# Altium footprint library ZhangXue.PcbLib: 39 footprints (part 2 of 3)
Each footprint in its own frame and in the unit in brackets; x right, y up, seen from the top. Pads: shape width x height; smd on the part's side, far side on the other; paste and mask are expansions set on the pad; w line width, h text height; cw(c..) or ccw(c..) is an arc to the next point about the centre after c.
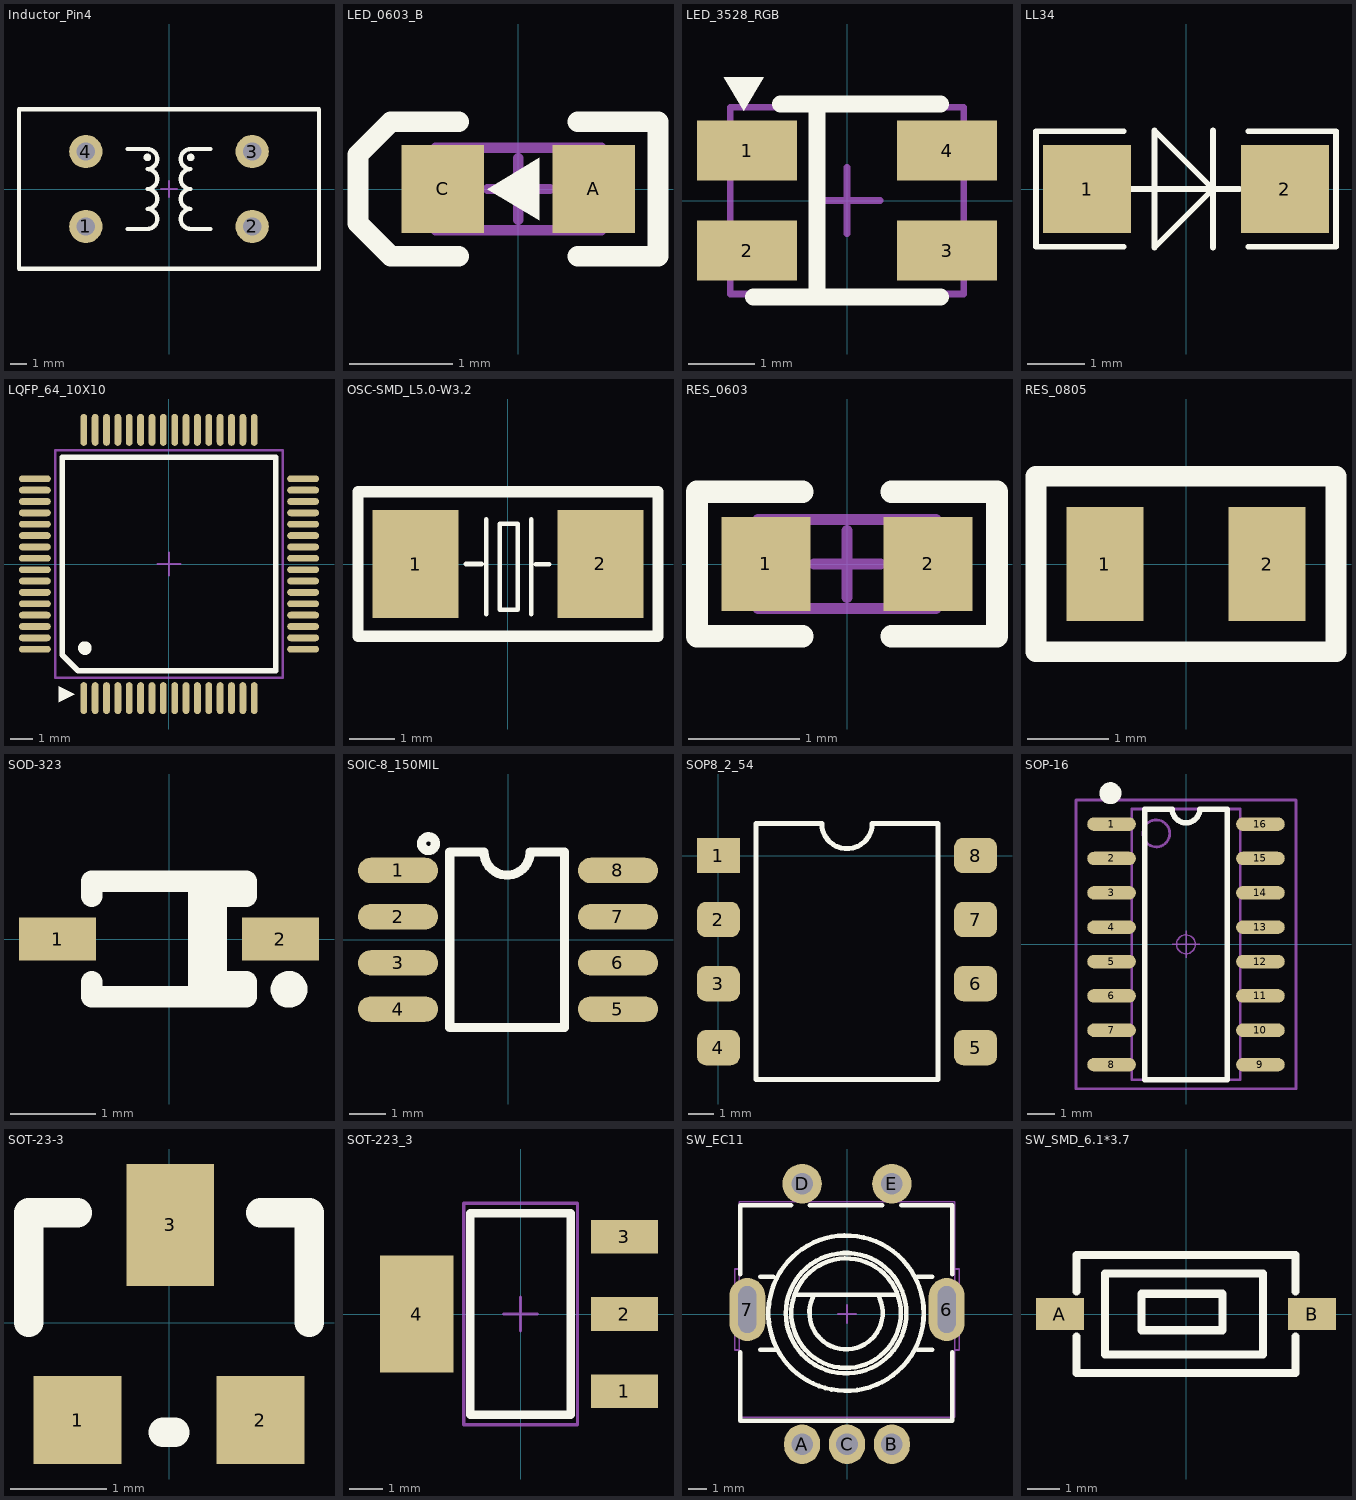
[diagram p1: the footprints below, top view; thin cyan lines are the x and y axes]

## Inductor_Pin4 [mm]
pads (4):
  round 2 hole 1.1: 1(-5,-2.25) 2(5,-2.25) 3(5,2.25) 4(-5,2.25)
Top Overlay:
  circle w0.254: c-1.3,1.9 r0.1
  circle w0.254: c1.3,1.9 r0.1
  lines w0.254: -2.5,-2.4 -1.3,-2.4 ccw(c-1.3,-1.8) -1.3,-1.2 ccw(c-1.3,-0.6) -1.3,0 ccw(c-1.3,0.6) -1.3,1.2 ccw(c-1.3,1.8) -1.3,2.4 -2.5,2.4 ; 2.5,-2.4 1.3,-2.4 cw(c1.3,-1.8) 1.3,-1.2 cw(c1.3,-0.6) 1.3,0 cw(c1.3,0.6) 1.3,1.2 cw(c1.3,1.8) 1.3,2.4 2.5,2.4 ; -9.017,-4.8 -9.017,4.8 9.017,4.8 9.017,-4.8 -9.017,-4.8
Mechanical 15:
  lines w0.1: -0.5,0 0.5,0 ; 0,-0.5 0,0.5

## LED_0603_B [mm]
pads (2):
  rect 0.8x0.85 smd: A(0.73,0) C(-0.73,0)
Top Overlay:
  region: -0.3,0 0.2,-0.3 0.2,0.3
  lines w0.2: -0.575,-0.65 -1.23,-0.65 -1.549,-0.33 -1.549,0.33 -1.23,0.65 -0.575,0.65 ; 0.575,-0.65 1.35,-0.65 1.35,0.65 0.575,0.65
Mechanical 15:
  lines w0.1: -0.297,0 0.303,0 ; 0,-0.3 0,0.3 ; -0.8,-0.4 0.8,-0.4 0.8,0.4 -0.8,0.4 -0.8,-0.4
3D body "LED0603(B).STEP": height 0.6, standoff 0, extent -0.81,-0.4 0.81,0.4

## LED_3528_RGB [mm]
pads (4):
  rect 1.5x0.9 smd: 1(-1.5,0.75) 2(-1.5,-0.75) 3(1.5,-0.75) 4(1.5,0.75)
Top Overlay:
  region: -1.85,1.85 -1.25,1.85 -1.55,1.35
  lines w0.254: -1.4,-1.447 1.4,-1.447 ; -1,1.453 1.4,1.453 ; -0.45,-1.447 -0.45,1.453
Mechanical 15:
  lines w0.1: -0.5,0.003 0.5,0.003 ; 0,-0.497 0,0.503 ; -1.75,-1.4 -1.75,1.4 1.75,1.4 1.75,-1.4 -1.75,-1.4
3D body "LED-3528 RGB.step": height 1.9, standoff 0, extent -1.75,-1.4 1.75,1.4

## LL34 [mil]
pads (2):
  rect 60x60 smd: 1(-67.5,0) 2(67.5,0)
Top Overlay:
  lines w3.94: -42.5,-39.37 -102.36,-39.37 -102.36,39.37 -42.5,39.37 ; -37.5,0 36.5,0 ; 18.5,-40 18.5,0 ; 18.5,40 18.5,0 ; 42.5,-39.37 102.36,-39.37 102.36,39.37 42.5,39.37 ; 18.5,0 -21.5,-40 -21.5,40 18.5,0
3D body "SOD-80.step": height 59.06, standoff 0, extent -66.4,-30 71.4,29.06

## LQFP_64_10X10 [mm]
pads (64):
  oval 0.3x1.4 smd: 1(-3.75,-5.9) 2(-3.25,-5.9) 3(-2.75,-5.9) 4(-2.25,-5.9) 5(-1.75,-5.9) 6(-1.25,-5.9) 7(-0.75,-5.9) 8(-0.25,-5.9) 9(0.25,-5.9) 10(0.75,-5.9) 11(1.25,-5.9) 12(1.75,-5.9) 13(2.25,-5.9) 14(2.75,-5.9) 15(3.25,-5.9) 16(3.75,-5.9) 33(3.75,5.9) 34(3.25,5.9) 35(2.75,5.9) 36(2.25,5.9) 37(1.75,5.9) 38(1.25,5.9) 39(0.75,5.9) 40(0.25,5.9) 41(-0.25,5.9) 42(-0.75,5.9) 43(-1.25,5.9) 44(-1.75,5.9) 45(-2.25,5.9) 46(-2.75,5.9) 47(-3.25,5.9) 48(-3.75,5.9)
  oval 1.4x0.3 smd: 17(5.9,-3.75) 18(5.9,-3.25) 19(5.9,-2.75) 20(5.9,-2.25) 21(5.9,-1.75) 22(5.9,-1.25) 23(5.9,-0.75) 24(5.9,-0.25) 25(5.9,0.25) 26(5.9,0.75) 27(5.9,1.25) 28(5.9,1.75) 29(5.9,2.25) 30(5.9,2.75) 31(5.9,3.25) 32(5.9,3.75) 49(-5.9,3.75) 50(-5.9,3.25) 51(-5.9,2.75) 52(-5.9,2.25) 53(-5.9,1.75) 54(-5.9,1.25) 55(-5.9,0.75) 56(-5.9,0.25) 57(-5.9,-0.25) 58(-5.9,-0.75) 59(-5.9,-1.25) 60(-5.9,-1.75) 61(-5.9,-2.25) 62(-5.9,-2.75) 63(-5.9,-3.25) 64(-5.9,-3.75)
Top Overlay:
  circle w0.4: c-3.7,-3.7 r0.1
  region: -4.15,-5.725 -4.85,-5.375 -4.85,-6.075
  lines w0.254: -4.7,-4 -4,-4.7 4.7,-4.7 4.7,4.7 -4.7,4.7 -4.7,-4
Mechanical 15:
  lines w0.1: -0.5,0 0.5,0 ; 0,-0.5 0,0.5 ; -5,-5 -5,5 5,5 5,-5 -5,-5
3D body "LQFP-64-10x10.STEP": height 1.62, standoff -0.01, extent -6.072,-6.07 6.072,6.073

## OSC-SMD_L5.0-W3.2 [mm]
pads (2):
  rect 1.9x2.4 smd: 1(-2.05,0) 2(2.05,0)
Top Overlay:
  lines w0.1: -0.94,0 -0.584,0 ; -0.483,-1.109 -0.483,0.991 ; 0.517,-1.109 0.517,0.991 ; 0.617,-0.009 0.917,-0.009 ; -0.183,-1.009 -0.183,0.89 0.217,0.891 0.217,-1.009 -0.183,-1.009
  lines w0.254: -3.325,-1.6 3.325,-1.6 3.325,-0.7 3.325,0.7 3.325,1.6 -3.325,1.6 -3.325,0.7 -3.325,-0.7 -3.325,-1.6
3D body "XTAL-Crystal SMD 5X3.2.STEP": height 1, standoff 0, extent -2.5,-1.473 2.5,1.727

## RES_0603 [mm]
pads (2):
  rect 0.8x0.85 smd: 1(-0.73,0) 2(0.73,0)
Top Overlay:
  lines w0.2: -0.4,-0.65 -1.35,-0.65 -1.35,0.65 -0.4,0.65 ; 0.4,-0.65 1.35,-0.65 1.35,0.65 0.4,0.65
Mechanical 15:
  lines w0.1: -0.297,0 0.303,0 ; 0,-0.3 0,0.3 ; -0.8,-0.4 -0.8,0.4 0.8,0.4 0.8,-0.4 -0.8,-0.4
3D body "RESC1608(0603).STEP": height 0.38, standoff 0, extent -0.8,-0.4 0.8,0.4

## RES_0805 [mm]
pads (2):
  rect 0.95x1.4 smd: 1(-1,0) 2(1,0)
Top Overlay:
  lines w0.254: -1.85,-1.08 1.85,-1.08 1.85,1.08 -1.85,1.08 -1.85,-1.08
3D body "RESC0805.STEP": height 0.45, standoff 0, extent -1,-0.62 1,0.63

## SOD-323 [mm]
pads (2):
  rect 0.9x0.5 smd: 1(-1.3,0) 2(1.3,0)
Top Overlay:
  circle w0.254: c1.4,-0.587 r0.088
  lines w0.254: -0.9,-0.5 -0.9,-0.675 0.9,-0.675 0.9,-0.5 0.55,-0.5 ; -0.9,0.5 -0.9,0.675 0.9,0.675 0.9,0.5 0.55,0.5 ; 0.35,-0.675 0.35,0.675 ; 0.55,-0.675 0.55,0.675 ; 0.7,-0.675 0.7,-0.5 ; 0.7,0.5 0.7,0.675
3D body "SOD-323.STEP": height 1.1, standoff 0, extent -1.35,-0.625 1.35,0.625

## SOIC-8_150MIL [mm]
pads (8):
  oval 2.2x0.7 smd: 1(-3.023,1.905) 2(-3.023,0.635) 3(-3.023,-0.635) 4(-3.023,-1.905) 5(3.023,-1.905) 6(3.023,-0.635) 7(3.023,0.635) 8(3.023,1.905)
Top Overlay:
  circle w0.254: c-2.184,2.642 r0.191
  lines w0.254: -1.6,-2.413 -1.6,2.413 -0.66,2.413 ccw(c-0.025,2.413) 0.61,2.413 1.549,2.413 1.549,-2.413 -1.6,-2.413
3D body "SOIC127P600X180-8N.STEP": height 1.95, standoff 0, extent -3.03,-2.565 3.026,2.565

## SOP8_2_54 [mm]
pads (8):
  rect 1.7x1.4 smd: 1(0,0)
  rrect50% 1.7x1.4 smd: 2(0,-2.54) 3(0,-5.08) 4(0,-7.62) 5(10.2,-7.62) 6(10.2,-5.08) 7(10.2,-2.54) 8(10.2,0)
Top Overlay:
  lines w0.2: 4.089,1.27 1.485,1.27 1.485,-8.89 8.715,-8.89 8.715,1.27 6.147,1.27 ; 4.1,1.27 ccw(c5.1,1.27) 6.1,1.27
3D body "SOP8-2,54.STEP": height 3, standoff 0, extent -0.056,-8.801 10.343,1.059

## SOP-16 [mm]
pads (16):
  oval 1.8x0.5 smd: 1(-2.75,4.445) 2(-2.75,3.175) 3(-2.75,1.905) 4(-2.75,0.635) 5(-2.75,-0.635) 6(-2.75,-1.905) 7(-2.75,-3.175) 8(-2.75,-4.445) 9(2.75,-4.445) 10(2.75,-3.175) 11(2.75,-1.905) 12(2.75,-0.635) 13(2.75,0.635) 14(2.75,1.905) 15(2.75,3.175) 16(2.75,4.445)
Top Overlay:
  circle w0.5: c-2.794,5.588 r0.155
  lines w0.2: -1.524,5 -1.524,-5 1.524,-5 1.524,5
  lines w0.203: -1.524,5 -0.508,5 ccw(c0,5) 0,4.492 ccw(c0,5) 0.508,5 1.524,5
Mechanical 13:
  circle w0.1: c-1.1,4.1 r0.5
  lines w0.1: -2,-5 -2,5 2,5 2,-5 -2,-5
Mechanical 15:
  circle w0.05: c0,0 r0.35
  lines w0.05: -0.5,0 0.5,0 ; 0,-0.5 0,0.5
  lines w0.1: -4.064,-5.334 -4.064,5.334 4.064,5.334 4.064,-5.334 -4.064,-5.334
3D body "SOP16.STEP": height 1.9, standoff 0, extent -3.003,-5 3.003,5

## SOT-23-3 [mil]
pads (3):
  rect 36x36 smd: 1(-37.5,-40) 2(37.5,-40)
  rect 36x50 smd: 3(0.5,40)
Top Overlay:
  lines w12: -57.5,0 -57.5,45 -37.5,45 ; -2.5,-45 2.5,-45 ; 37.5,45 57.5,45 57.5,0
3D body "SOT-23-3.STEP": height -15, standoff -62.24, extent -54.08,-52.11 60.09,58.12

## SOT-223_3 [mm]
pads (4):
  rect 2x1 smd: 1(3.1,-2.3) 2(3.1,0) 3(3.1,2.3)
  rect 2.2x3.5 smd: 4(-3.1,0)
Top Overlay:
  lines w0.254: -1.5,-3 1.5,-3 1.5,3 -1.5,3 -1.5,-3
Mechanical 15:
  lines w0.1: -0.5,0 0.5,0 ; 0,-0.5 0,0.5 ; -1.7,-3.3 -1.7,3.3 1.7,3.3 1.7,-3.3 -1.7,-3.3
3D body "SOT223.STEP": height 1.64, standoff -0.01, extent -3.5,-3.25 3.5,3.25

## SW_EC11 [mm]
pads (7):
  oval 2x3.5 hole 1 slot 2.6 at 90 deg: 6(5.55,0.25) 7(-5.55,0.25)
  oval 2x2.2 hole 1.2: A(-2.5,-7.25) B(2.5,-7.25) C(0,-7.25)
  round 2.2 hole 1.2: D(-2.5,7.25) E(2.5,7.25)
Top Overlay:
  circle w0.254: c-0.051,0.047 r3.048
  circle w0.254: c-0.051,0.047 r3.353
  circle w0.254: c-0.051,0.047 r4.325
  lines w0.254: -4.839,-1.985 -3.861,-1.985 ; -4.839,2.079 -4.102,2.079 ; -3.117,6.047 -5.951,6.047 ; -2.845,1.063 2.743,1.063 ; -2.065,6.047 1.963,6.047 ; -1.829,1.063 ccw(c-0.051,0.069) 1.727,1.063 ; 3.015,6.047 5.849,6.047 5.849,2.219 ; 3.924,-1.985 4.737,-1.985 ; 3.924,2.079 4.737,2.079 ; 5.849,-2.125 5.849,-5.953 -5.951,-5.953 ; -5.951,-5.953 -5.951,-2.125 -5.951,-5.953 ; -5.951,6.047 -5.951,2.219 -5.951,6.047
Mechanical 15:
  lines w0.1: -6,-2 -6.25,-2 -6.25,2.5 -6,2.5 ; -0.5,0 0.5,0 ; 0,-0.5 0,0.5 ; 6,-2 6.25,-2 6.25,2.5 6,2.5 ; -6,-5.75 6,-5.75 6,6.25 -6,6.25 -6,-5.75
3D body "SW-EC11E-05SW.step": height 24.5, standoff -3.65, extent -5.9,-7.425 5.813,7.525

## SW_SMD_6.1*3.7 [mm]
pads (2):
  rect 1.5x1 smd: A(-3.95,0) B(3.95,0)
Top Overlay:
  lines w0.254: -3.429,-0.708 -3.429,-1.85 3.429,-1.85 3.429,-0.708 ; -3.429,0.708 -3.429,1.85 3.429,1.85 3.429,0.708 ; -2.54,-1.27 2.413,-1.27 2.413,1.27 -2.54,1.27 -2.54,-1.27 ; -1.397,-0.508 -1.397,0.635 1.143,0.635 1.143,-0.508 -1.397,-0.508
3D body "SWITCH-PB-1.STEP": height 2.6, standoff -0.05, extent -4,-1.799 4,1.901